# Altium schematic symbol library Resistor_1206.Schlib: 1 symbol
Pins are listed as number, name and electrical type; pins without a type are passive.

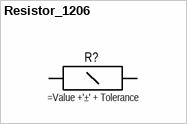
[diagram p0: symbol Resistor_1206]

## Resistor_1206
designator R?
pins: 1, 2